# Altium footprint library Components.PcbLib: 2 footprints
Each footprint in its own frame and in the unit in brackets; x right, y up, seen from the top. Pads: shape width x height; smd on the part's side, far side on the other; paste and mask are expansions set on the pad; w line width, h text height; cw(c..) or ccw(c..) is an arc to the next point about the centre after c.
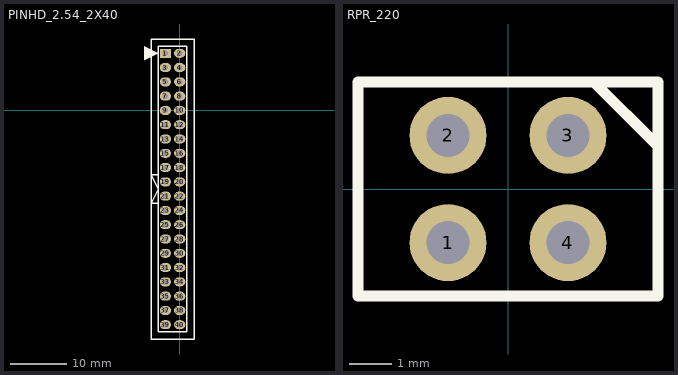
[diagram p0: the footprints below, top view; thin cyan lines are the x and y axes]

## PINHD_2.54_2X40 [mm] "Pin Header 2.54mm 2x40Pin"
pads (40):
  rect 2x1.6 hole 1: 1(-2.54,10.16)
  oval 2x1.6 hole 1: 2(0,10.16) 3(-2.54,7.62) 4(0,7.62) 5(-2.54,5.08) 6(0,5.08) 7(-2.54,2.54) 8(0,2.54) 9(-2.54,0) 10(0,0) 11(-2.54,-2.54) 12(0,-2.54) 13(-2.54,-5.08) 14(0,-5.08) 15(-2.54,-7.62) 16(0,-7.62) 17(-2.54,-10.16) 18(0,-10.16) 19(-2.54,-12.7) 20(0,-12.7) 21(-2.54,-15.24) 22(0,-15.24) 23(-2.54,-17.78) 24(0,-17.78) 25(-2.54,-20.32) 26(0,-20.32) 27(-2.54,-22.86) 28(0,-22.86) 29(-2.54,-25.4) 30(0,-25.4) 31(-2.54,-27.94) 32(0,-27.94) 33(-2.54,-30.48) 34(0,-30.48) 35(-2.54,-33.02) 36(0,-33.02) 37(-2.54,-35.56) 38(0,-35.56) 39(-2.54,-38.1) 40(0,-38.1)
Top Overlay:
  region: -6.35,11.43 -6.35,8.89 -3.81,10.16
  lines w0.254: -3.81,-16.51 -5.08,-16.51 -3.81,-13.97 -5.08,-11.43 -3.81,-11.43 ; -5.08,-40.64 -5.08,12.7 2.54,12.7 2.54,-40.64 -5.08,-40.64 ; -3.81,-39.37 1.27,-39.37 1.27,11.43 -3.81,11.43 -3.81,-39.37

## RPR_220 [mm] "RPR-220 Infrared reflective photo sensor"
pads (4):
  round 1.8 hole 1: 1(-1.4,-1.25) 2(-1.4,1.25) 3(1.4,1.25) 4(1.4,-1.25)
Top Overlay:
  lines w0.254: 2,2.5 3.5,1 ; -3.5,-2.5 3.5,-2.5 3.5,2.5 -3.5,2.5 -3.5,-2.5